# Altium footprint library Button.PcbLib: 13 footprints
Each footprint in its own frame and in the unit in brackets; x right, y up, seen from the top. Pads: shape width x height; smd on the part's side, far side on the other; paste and mask are expansions set on the pad; w line width, h text height; cw(c..) or ccw(c..) is an arc to the next point about the centre after c.
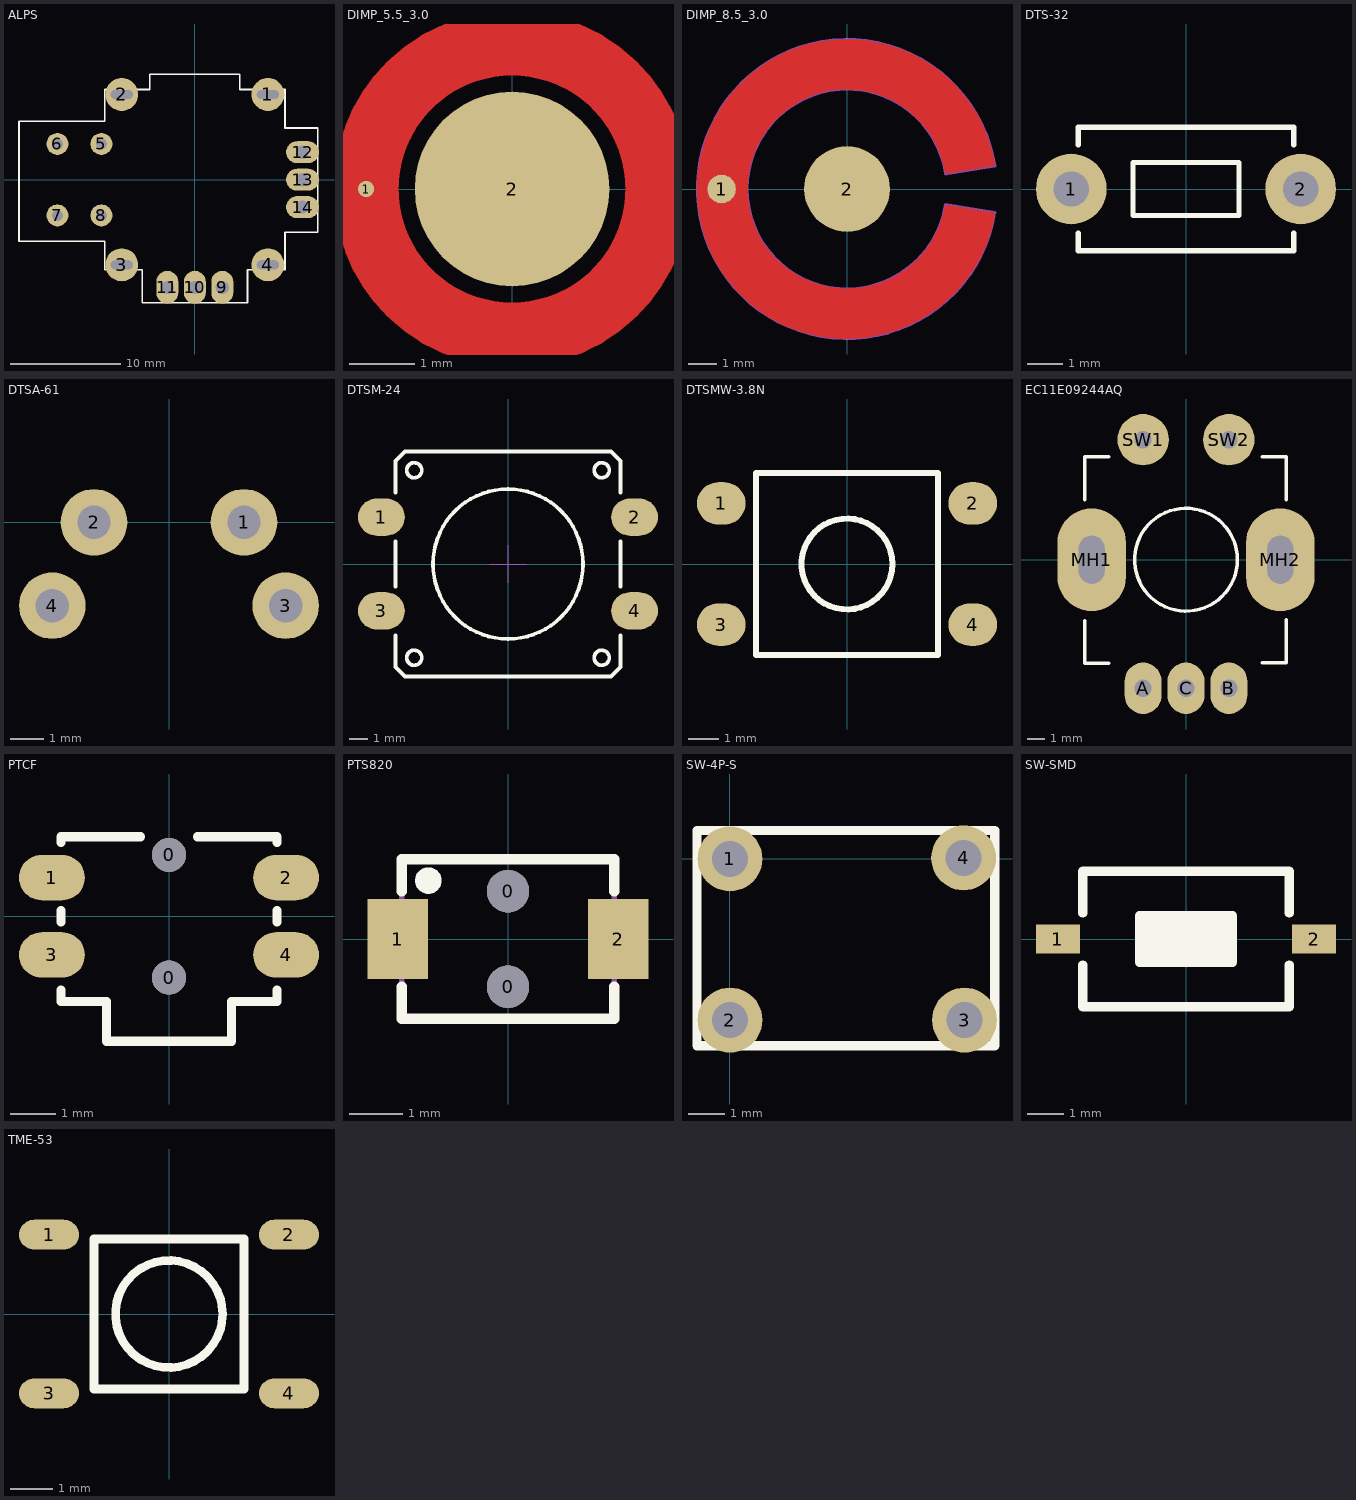
[diagram p0: the footprints below, top view; thin cyan lines are the x and y axes]

## ALPS [mm]
pads (14):
  round 3 hole 0.8 slot 2 at 0 deg: 1(6.65,7.75) 2(-6.65,7.75) 3(-6.65,-7.75) 4(6.65,-7.75)
  round 2 hole 1: 5(-8.5,3.25) 6(-12.5,3.25) 7(-12.5,-3.25) 8(-8.5,-3.25)
  oval 2x3 hole 1.2: 9(2.5,-9.8) 10(0,-9.8) 11(-2.5,-9.8)
  oval 3x2 hole 1.2: 12(9.8,2.5) 13(9.8,0) 14(9.8,-2.5)
Top Overlay:
  lines w0.15: -16,-5.6 -8.2,-5.6 -8.2,-8.2 -4.8,-8.2 -4.8,-11.2 4.8,-11.2 4.8,-8.2 8.2,-8.2 8.2,-4.8 11.2,-4.8 11.2,4.7 8.2,4.7 8.2,8.2 4.1,8.2 4.1,9.6 -4.1,9.6 -4.1,8.2 -8.2,8.2 -8.2,5.3 -16,5.3 -16,-5.6
3D body "ALPS_Joystick.STEP": height 29.05, standoff -4.29, extent -16.025,-13.15 13.15,13.15

## DIMP_5.5_3.0 [mm]
pads (2):
  round 0.25 smd: 1(-2.25,0)
  round 3 smd mask+0.5: 2(0,0)
Top Layer:
  circle w1: c0,0 r2.25
Top Solder:
  circle w1: c0,0 r2.25

## DIMP_8.5_3.0 [mm]
pads (2):
  round 1 smd: 1(-4.4,0)
  round 3 smd: 2(0,0)
Top Layer:
  region: 5.184,-0.827 5.128,-1.18 4.921,-1.862 4.624,-2.511 4.242,-3.113 3.782,-3.659 3.252,-4.137 2.663,-4.539 2.025,-4.857 1.349,-5.086 0.649,-5.222 -0.064,-5.262 -0.775,-5.205 -1.472,-5.052 -2.142,-4.807 -2.772,-4.473 -3.352,-4.057 -3.869,-3.566 -4.316,-3.01 -4.684,-2.398 -4.965,-1.743 -5.155,-1.055 -5.251,-0.348 -5.249,0.365 -5.152,1.072 -4.959,1.759 -4.676,2.414 -4.306,3.024 -3.858,3.579 -3.338,4.068 -2.757,4.482 -2.126,4.814 -1.455,5.057 -0.758,5.207 -0.047,5.262 0.666,5.22 1.366,5.082 2.04,4.85 2.678,4.53 3.266,4.126 3.794,3.646 4.252,3.1 4.632,2.496 4.928,1.846 5.132,1.163 5.187,0.811 5.187,0.81 3.458,0.54 3.401,0.825 3.219,1.375 2.947,1.887 2.595,2.348 2.172,2.744 1.689,3.065 1.16,3.302 0.599,3.448 0.022,3.5 -0.556,3.456 -1.119,3.316 -1.651,3.086 -2.138,2.771 -2.566,2.38 -2.924,1.924 -3.201,1.415 -3.391,0.867 -3.487,0.296 -3.488,-0.284 -3.394,-0.856 -3.206,-1.405 -2.93,-1.915 -2.574,-2.372 -2.147,-2.764 -1.661,-3.081 -1.13,-3.313 -0.567,-3.454 0.01,-3.5 0.588,-3.45 1.15,-3.306 1.679,-3.071 2.163,-2.751 2.588,-2.357 2.941,-1.897 3.214,-1.385 3.399,-0.836 3.456,-0.552
Top Solder:
  region: 5.184,-0.827 5.128,-1.18 4.921,-1.862 4.624,-2.511 4.242,-3.113 3.782,-3.659 3.252,-4.137 2.663,-4.539 2.025,-4.857 1.349,-5.086 0.649,-5.222 -0.064,-5.262 -0.775,-5.205 -1.472,-5.052 -2.142,-4.807 -2.772,-4.473 -3.352,-4.057 -3.869,-3.566 -4.316,-3.01 -4.684,-2.398 -4.965,-1.743 -5.155,-1.055 -5.251,-0.348 -5.249,0.365 -5.152,1.072 -4.959,1.759 -4.676,2.414 -4.306,3.024 -3.858,3.579 -3.338,4.068 -2.757,4.482 -2.126,4.814 -1.455,5.057 -0.758,5.207 -0.047,5.262 0.666,5.22 1.366,5.082 2.04,4.85 2.678,4.53 3.266,4.126 3.794,3.646 4.252,3.1 4.632,2.496 4.928,1.846 5.132,1.163 5.187,0.811 5.187,0.81 3.458,0.54 3.401,0.825 3.219,1.375 2.947,1.887 2.595,2.348 2.172,2.744 1.689,3.065 1.16,3.302 0.599,3.448 0.022,3.5 -0.556,3.456 -1.119,3.316 -1.651,3.086 -2.138,2.771 -2.566,2.38 -2.924,1.924 -3.201,1.415 -3.391,0.867 -3.487,0.296 -3.488,-0.284 -3.394,-0.856 -3.206,-1.405 -2.93,-1.915 -2.574,-2.372 -2.147,-2.764 -1.661,-3.081 -1.13,-3.313 -0.567,-3.454 0.01,-3.5 0.588,-3.45 1.15,-3.306 1.679,-3.071 2.163,-2.751 2.588,-2.357 2.941,-1.897 3.214,-1.385 3.399,-0.836 3.456,-0.552
Mechanical 15:
  lines w0.1: 3.456,-0.552 cw(c0,0) 3.458,0.54 ; 5.184,-0.827 cw(c0,0) 5.187,0.811
  lines w0.12: 3.456,-0.552 5.184,-0.827 ; 3.458,0.54 5.187,0.81
3D body: height 0.2, standoff 0, extent -4.75,-4.749 4.75,4.749

## DTS-32 [mm]
pads (2):
  round 2 hole 1: 1(-3.25,0) 2(3.25,0)
Top Overlay:
  lines w0.15: -3.05,-1.25 -3.05,-1.75 3.05,-1.75 3.05,-1.25 ; -3.05,1.25 -3.05,1.75 3.05,1.75 3.05,1.25 ; -1.5,-0.75 -1.5,0.75 1.5,0.75 1.5,-0.75 -1.5,-0.75
3D body "43408.stp": height 4.31, standoff -3.48, extent -3.909,-1.75 3.91,1.75

## DTSA-61 [mm]
pads (4):
  round 2 hole 1: 1(2.25,0) 2(-2.25,0) 3(3.5,-2.5) 4(-3.5,-2.5)
3D body "Кнопка.stp": height 7.11, standoff -3.74, extent -4.194,-4.05 4.194,8.1

## DTSM-24 [mm]
pads (4):
  oval 2.5x2 smd mask+0.1: 1(-6.75,2.5) 2(6.75,2.5) 3(-6.75,-2.5) 4(6.75,-2.5)
Top Overlay:
  circle w0.2: c0,0 r4
  circle w0.2: c5,5 r0.4
  circle w0.2: c5,-5 r0.4
  circle w0.2: c-5,-5 r0.4
  circle w0.2: c-5,5 r0.4
  lines w0.2: -6,-3.8 -6,-5.5 -5.5,-6 5.5,-6 6,-5.5 6,-3.8 ; -6,-1.2 -6,1.2 ; -6,3.8 -6,5.5 -5.5,6 5.5,6 6,5.5 6,3.8 ; 6,-1.2 6,1.2
Mechanical 15:
  lines w0.05: -1,0 1,0 ; 0,-1 0,1
3D body "DTSM-81.STEP": height 7.32, standoff 0.02, extent -7.6,-6 7.6,6

## DTSMW-3.8N [mm] "Surface Mount DTSM Tact Switch; Body 6 x 6 mm (LxW)"
pads (4):
  oval 1.6x1.4 smd mask+0.1: 1(-4.15,2) 2(4.15,2) 3(-4.15,-2) 4(4.15,-2)
Top Overlay:
  circle w0.2: c0,0 r1.5
  lines w0.2: -3,-3 -3,3 3,3 3,-3 -3,-3
3D body "DTSMW-3.8N(69N-TR).STEP": height 4.01, standoff 0.02, extent -4.493,-3.1 4.493,3.1

## EC11E09244AQ [mm]
pads (7):
  oval 2.15x3 hole 1: A(-2.5,-7.5) B(2.5,-7.5) C(0,-7.5)
  oval 4x6 hole 1.5 slot 2.8 at 90 deg: MH1(-5.5,0) MH2(5.5,0)
  round 3 hole 1: SW1(-2.5,7) SW2(2.5,7)
Top Overlay:
  circle w0.2: c0,0 r3
  lines w0.2: -5.9,-3.55 -5.9,-6.05 -4.5,-6.05 ; -5.9,3.5 -5.9,6 -4.5,6 ; 4.45,-6 5.85,-6 5.85,-3.5 ; 4.45,6 5.85,6 5.85,3.5
3D body "EC11E09244AQ.STEP": height 24.51, standoff -3.49, extent -6.362,-7.65 6.366,7.15

## PTCF [mm]
height 1.67
pads (6):
  round 0.75 hole 0.75 unplated mask+0.1: 0(0,-1.35) 0(0,1.35)
  oval 1.45x1 smd mask+0.1: 1(-2.575,0.85) 2(2.575,0.85) 3(-2.575,-0.85) 4(2.575,-0.85)
Top Overlay:
  lines w0.2: -2.375,-1.625 -2.375,-1.875 -1.375,-1.875 -1.375,-2.75 1.375,-2.75 1.375,-1.875 2.375,-1.875 2.375,-1.625 ; -2.375,-0.125 -2.375,0.125 ; -2.375,1.625 -2.375,1.75 -0.625,1.75 ; 0.625,1.75 2.375,1.75 2.375,1.625 ; 2.375,-0.125 2.375,0.125
3D body "PTCF.STEP": height 1.69, standoff -0.58, extent -2.95,-2.75 2.95,1.75

## PTS820 [mm] "SMT Tactile Switch PTS 820 Series"
height 2
pads (4):
  round 0.8 hole 0.8 unplated: 0(0,-0.9) 0(0,0.9)
  rect 1.143x1.5 smd: 1(-2.075,0) 2(2.075,0)
Top Overlay:
  circle w0.25: c-1.5,1.1 r0.125
  lines w0.2: -2,-0.9 -2,-1.5 2,-1.5 2,-0.9 ; -2,0.9 -2,1.5 2,1.5 2,0.9
Mechanical 1:
  lines w0.1: -2,-1.5 -2,1.5 2,1.5 2,-1.5 -2,-1.5
3D body "SMT Tactile Switch PTS-820.STEP": height 2.05, standoff -0.5, extent -2.25,-1.55 2.25,1.55

## SW-4P-S [mm]
height 5.59
pads (4):
  round 1.8 hole 1: 1(0,0) 2(0,-4.47) 3(6.502,-4.47) 4(6.477,0.025)
Top Overlay:
  lines w0.254: -0.914,-5.182 7.341,-5.182 7.341,0.787 6.934,0.787 -0.914,0.787 -0.914,-5.182
3D body "User Library-Button-small-4pin.step": height 9.52, standoff -3.48, extent -0.864,-5.235 7.348,0.765

## SW-SMD [mm] "Switch SMD type"
pads (2):
  rect 1.2x0.8 smd: 1(-3.5,0) 2(3.5,0)
Top Overlay:
  rectangle: -1.27,-0.635 1.27,0.635
  lines w0.254: -2.819,-0.711 -2.819,-1.854 2.819,-1.854 2.819,-0.711 ; -2.819,0.711 -2.819,1.854 2.819,1.854 2.819,0.711 ; -1.27,-0.635 -1.27,0.635 1.27,0.635 1.27,-0.635 -1.27,-0.635
3D body "User Library-Button-SMD.step": height 2.5, standoff 0, extent -3.05,-1.85 3.05,1.85

## TME-53 [mm]
pads (4):
  oval 1.4x0.7 smd mask+0.1: 1(-2.8,1.85) 2(2.8,1.85) 3(-2.8,-1.85) 4(2.8,-1.85)
Top Overlay:
  circle w0.2: c0,0 r1.25
  lines w0.2: -1.75,-1.75 1.75,-1.75 1.75,1.75 -1.75,1.75 -1.75,-1.75
3D body "43435.stp": height 1.51, standoff 0.01, extent -3.2,-2.6 3.2,2.6